# Altium footprint library AMIDA7.PcbLib: 36 footprints (part 1 of 3)
Each footprint in its own frame and in the unit in brackets; x right, y up, seen from the top. Pads: shape width x height; smd on the part's side, far side on the other; paste and mask are expansions set on the pad; w line width, h text height; cw(c..) or ccw(c..) is an arc to the next point about the centre after c.
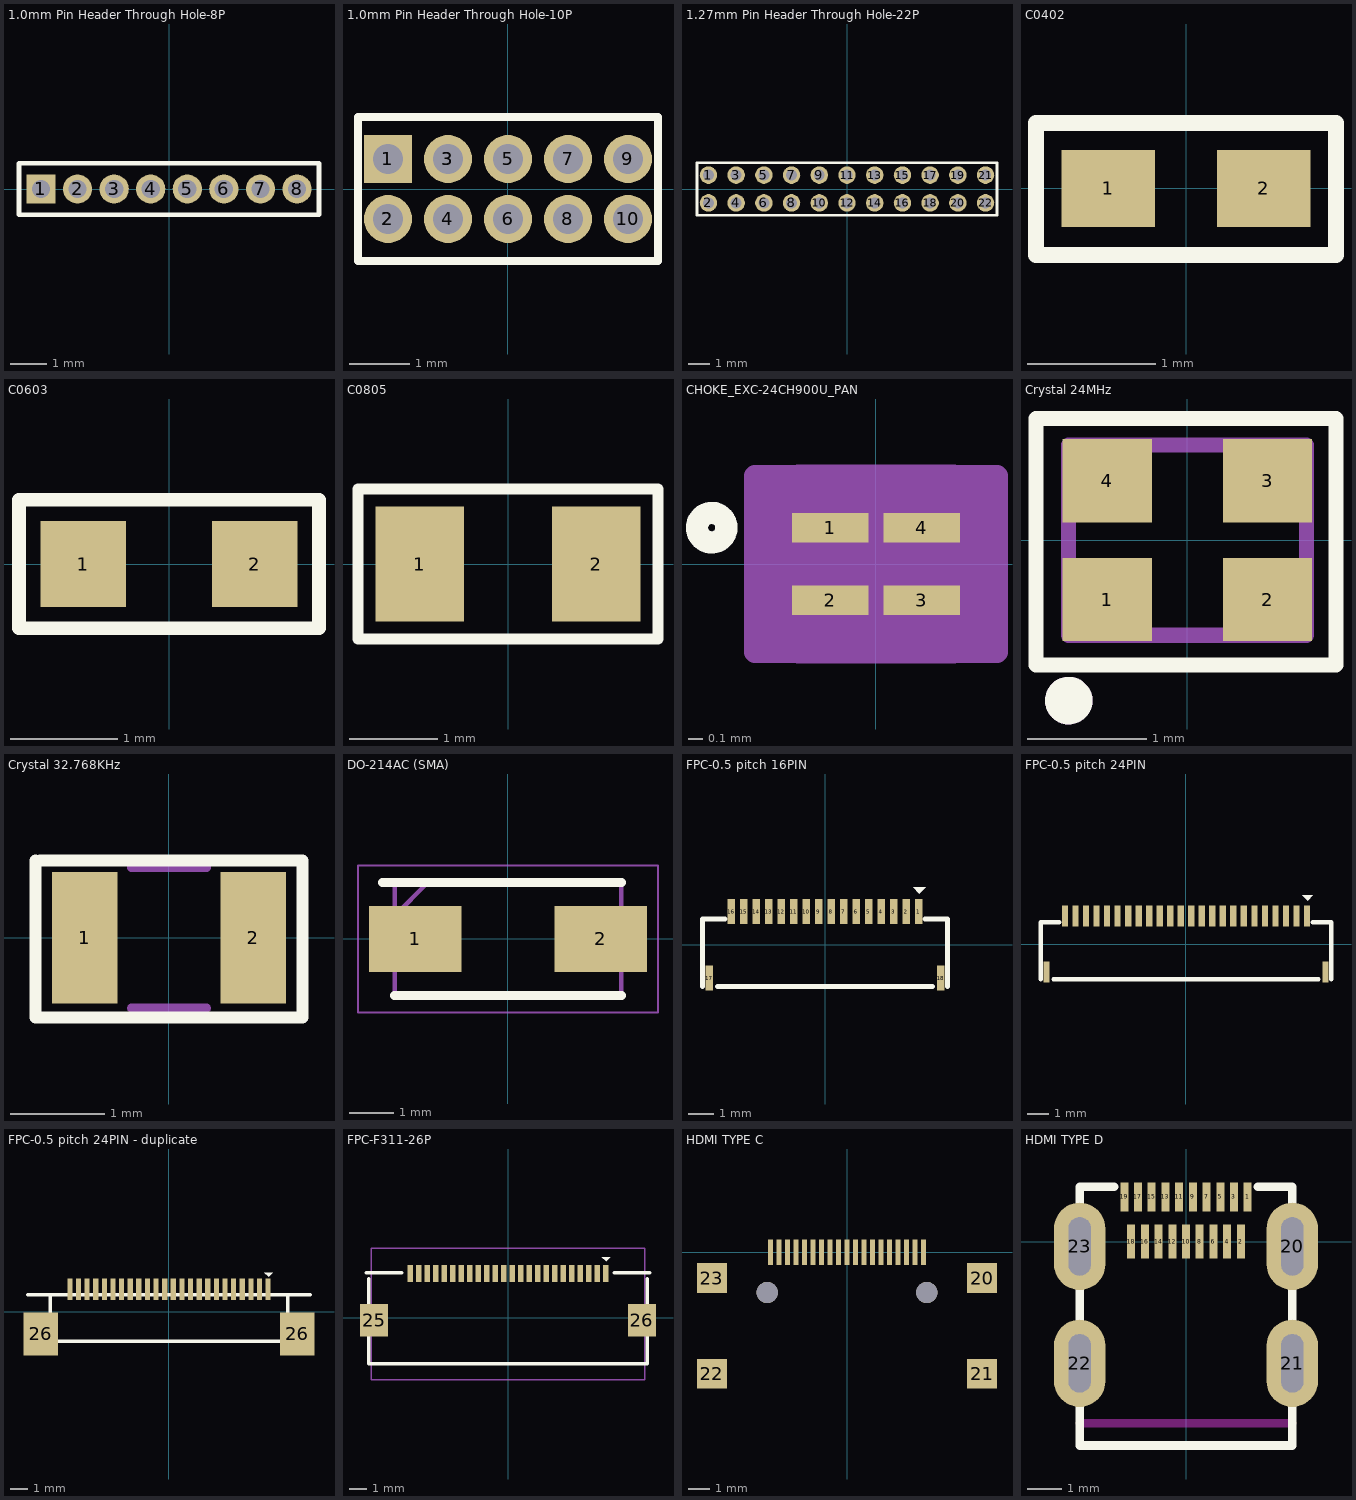
[diagram p0: the footprints below, top view; thin cyan lines are the x and y axes]

## 1.0mm Pin Header Through Hole-8P [mm] "8P(1x8)"
pads (8):
  rect 0.8x0.8 hole 0.5: 1(-3.5,0)
  round 0.8 hole 0.5: 2(-2.5,0) 3(-1.5,0) 4(-0.5,0) 5(0.5,0) 6(1.5,0) 7(2.5,0) 8(3.5,0)
Top Overlay:
  lines w0.127: -4.1,-0.7 -4.1,0.7 4.1,0.7 4.1,-0.7 -4.1,-0.7

## 1.0mm Pin Header Through Hole-10P [mm] "10P(2x5)"
pads (12):
  rect 0.8x0.8 hole 0.5: 1(-2,0.5)
  round 0.8 hole 0.5: 2(-2,-0.5) 2(-2,-0.5) 3(-1,0.5) 3(-1,0.5) 4(-1,-0.5) 5(0,0.5) 6(0,-0.5) 7(1,0.5) 8(1,-0.5) 9(2,0.5) 10(2,-0.5)
Top Overlay:
  lines w0.127: -2.5,-1.2 -2.5,1.2 2.5,1.2 2.5,-1.2 -2.5,-1.2

## 1.27mm Pin Header Through Hole-22P [mm] "22P(2x11)"
pads (22):
  round 0.8 hole 0.5: 1(-6.35,0.635) 2(-6.35,-0.635) 3(-5.08,0.635) 4(-5.08,-0.635) 5(-3.81,0.635) 6(-3.81,-0.635) 7(-2.54,0.635) 8(-2.54,-0.635) 9(-1.27,0.635) 10(-1.27,-0.635) 11(0,0.635) 12(0,-0.635) 13(1.27,0.635) 14(1.27,-0.635) 15(2.54,0.635) 16(2.54,-0.635) 17(3.81,0.635) 18(3.81,-0.635) 19(5.08,0.635) 20(5.08,-0.635) 21(6.35,0.635) 22(6.35,-0.635)
Top Overlay:
  lines w0.127: -6.875,-1.2 6.875,-1.2 6.875,1.2 -6.875,1.2 -6.875,-1.2

## C0402 [mm] "CAP_0402"
height 0.55
pads (2):
  rect 0.73x0.6 smd: 1(-0.608,0) 2(0.608,0)
Top Overlay:
  lines w0.127: -1.17,-0.52 1.17,-0.52 1.17,0.51 -1.17,0.51 -1.17,-0.52
3D body "CAP_0603.STEP": height 0.86, standoff 0, extent -0.8,-0.4 0.8,0.4

## C0603 [mm] "CAP_0603"
height 0.85
pads (2):
  rect 0.8x0.8 smd: 1(-0.8,0) 2(0.8,0)
Top Overlay:
  lines w0.127: -1.4,-0.6 -1.4,0.6 1.4,0.6 1.4,-0.6 -1.4,-0.6
3D body "CAP_0603.STEP": height 0.86, standoff 0, extent -0.8,-0.4 0.8,0.4

## C0805 [mm]
height 0.8
pads (2):
  rect 1x1.3 smd: 1(-1,0) 2(1,0)
Top Overlay:
  lines w0.127: -1.7,-0.85 -1.7,0.85 1.7,0.85 1.7,-0.85 -1.7,-0.85
3D body "CAP_0805.STEP": height 0.78, standoff 0, extent -1,-0.625 1,0.625

## CHOKE_EXC-24CH900U_PAN [mm]
pads (4):
  rect 0.529x0.204 smd paste+0 mask+0: 1(-0.315,0.25) 2(-0.315,-0.25) 3(0.315,-0.25) 4(0.315,0.25)
Top Overlay:
  circle w0.152: c-1.13,0.25 r0.102
Mechanical 15:
  region: -0.533,-0.606 -0.833,-0.606 -0.833,0.606 -0.533,0.606 -0.533,0.61 0.533,0.61 0.533,0.606 0.833,0.606 0.833,-0.606 0.533,-0.606 0.533,-0.61 -0.533,-0.61
  lines w0.152: -0.833,-0.606 -0.533,-0.606 -0.533,-0.61 0.533,-0.61 0.533,-0.606 0.833,-0.606 0.833,0.606 0.533,0.606 0.533,0.61 -0.533,0.61 -0.533,0.606 -0.833,0.606 -0.833,-0.606
3D body "CHOKE_EXC-24CH900U_PAN.step": height 0.36, standoff 0, extent -0.279,-0.377 0.279,0.377

## Crystal 24MHz [mm] "XRCGE24M000FBA1BR0,MURATA,24.0000MHZ,8PF,15PPM,2.0x1.6mm"
pads (4):
  rect 0.75x0.7 smd: 1(-0.675,-0.5) 2(0.675,-0.5) 3(0.675,0.5) 4(-0.675,0.5)
Top Overlay:
  circle w0.2: c-1,-1.35 r0.1
  lines w0.127: -1.275,-1.05 1.25,-1.05 1.25,1.025 -1.275,1.025 -1.275,-1.05
Mechanical 13:
  circle w0.2: c-1,-1.35 r0.1
  lines w0.127: -1,-0.8 -1,0.8 1,0.8 1,-0.8 -1,-0.8
Mechanical 15:
  lines w0.05: -1.25,-1.05 -1.25,1.05 1.25,1.05 1.25,-1.05 -1.25,-1.05
3D body "step_temp.STEP": height 0.7, standoff 0, extent -1,-0.8 1,0.8

## Crystal 32.768KHz [mm] "Seiko Instruments"
pads (2):
  rect 0.7x1.4 smd: 1(-0.9,0) 2(0.9,0)
Top Overlay:
  lines w0.127: -1.425,0.825 -1.425,-0.85 1.425,-0.85 1.425,0.825 -1.375,0.825
Mechanical 7:
  lines w0.1: -0.4,-0.75 0.4,-0.75 ; -0.4,0.75 0.4,0.75
3D body "XTAL_SC-20S_EPS.step": height 0.61, standoff 0, extent -1.08,-0.648 1.08,0.648

## DO-214AC (SMA) [mm] "SS14"
pads (2):
  rect 2.1x1.5 smd: 1(-2.1,0) 2(2.1,0)
Top Overlay:
  lines w0.2: -2.85,1.28 2.57,1.28 ; -2.57,-1.28 2.57,-1.28
Mechanical 15:
  lines w0.1: -2.57,0.53 -1.82,1.28 ; -2.57,-1.28 2.57,-1.28 2.57,1.28 -2.57,1.28 -2.57,-1.28
Mechanical 20:
  lines w0.05: -3.4,-1.665 3.4,-1.665 3.4,1.665 -3.4,1.665 -3.4,-1.665

## FPC-0.5 pitch 16PIN [mm] "冠泰"
pads (19):
  rect 0.3x1 smd: 1(3.75,1.33) 2(3.25,1.33) 3(2.75,1.33) 4(2.25,1.33) 5(1.75,1.33) 6(1.25,1.33) 7(0.75,1.33) 8(0.25,1.33) 9(-0.25,1.33) 10(-0.75,1.33) 11(-1.25,1.33) 12(-1.75,1.33) 13(-2.25,1.33) 14(-2.75,1.33) 15(-3.25,1.33) 16(-3.75,1.33) 17(-4.625,-1.33) 18(4.625,-1.33)
  rect 0x0 smd: 5(6.883,-0.33)
Top Overlay:
  region: 3.775,2.055 4.025,2.305 3.525,2.305
  lines w0.2: -4.9,-1.67 -4.9,1.03 -4,1.03 ; -4.3,-1.67 4.3,-1.67 ; 4,1.03 4.9,1.03 4.9,-1.67

## FPC-0.5 pitch 24PIN [mm] "冠泰"
pads (26):
  rect 0.3x1 smd: 1(5.75,1.33) 2(5.25,1.33) 3(4.75,1.33) 4(4.25,1.33) 5(3.75,1.33) 6(3.25,1.33) 7(2.75,1.33) 8(2.25,1.33) 9(1.75,1.33) 10(1.25,1.33) 11(0.75,1.33) 12(0.25,1.33) 13(-0.25,1.33) 14(-0.75,1.33) 15(-1.25,1.33) 16(-1.75,1.33) 17(-2.25,1.33) 18(-2.75,1.33) 19(-3.25,1.33) 20(-3.75,1.33) 21(-4.25,1.33) 22(-4.75,1.33) 23(-5.25,1.33) 24(-5.75,1.33) 25(-6.625,-1.33) 26(6.625,-1.33)
Top Overlay:
  region: 5.775,2.055 6.025,2.305 5.525,2.305
  lines w0.2: -6.9,-1.67 -6.9,1.03 -6.025,1.03 ; -6.3,-1.67 6.3,-1.67 ; 6.025,1.03 6.9,1.03 6.9,-1.67

## FPC-0.5 pitch 24PIN - duplicate [mm] "冠泰"
pads (26):
  rect 0.3x1.25 smd: 1(5.75,1.288) 2(5.25,1.288) 3(4.75,1.288) 4(4.25,1.288) 5(3.75,1.288) 6(3.25,1.288) 7(2.75,1.288) 8(2.25,1.288) 9(1.75,1.288) 10(1.25,1.288) 11(0.75,1.288) 12(0.25,1.288) 13(-0.25,1.288) 14(-0.75,1.288) 15(-1.25,1.288) 16(-1.75,1.288) 17(-2.25,1.288) 18(-2.75,1.288) 19(-3.25,1.288) 20(-3.75,1.288) 21(-4.25,1.288) 22(-4.75,1.288) 23(-5.25,1.288) 24(-5.75,1.288)
  rect 2x2.5 smd: 26(-7.45,-1.287) 26(7.45,-1.287)
Top Overlay:
  region: 5.775,2.013 6.025,2.263 5.525,2.263
  lines w0.2: -8.2,0.988 0,0.988 8.2,0.988 ; -6.9,0.988 -6.9,-1.712 6.9,-1.712 6.9,0.988

## FPC-F311-26P [mm] "冠泰電子"
pads (26):
  rect 0.3x1 smd: 1(5.75,2.6) 2(5.25,2.6) 3(4.75,2.6) 4(4.25,2.6) 5(3.75,2.6) 6(3.25,2.6) 7(2.75,2.6) 8(2.25,2.6) 9(1.75,2.6) 10(1.25,2.6) 11(0.75,2.6) 12(0.25,2.6) 13(-0.25,2.6) 14(-0.75,2.6) 15(-1.25,2.6) 16(-1.75,2.6) 17(-2.25,2.6) 18(-2.75,2.6) 19(-3.25,2.6) 20(-3.75,2.6) 21(-4.25,2.6) 22(-4.75,2.6) 23(-5.25,2.6) 24(-5.75,2.6)
  rect 1.65x1.9 smd: 25(-7.875,-0.15) 26(7.875,-0.15)
Top Overlay:
  region: 5.775,3.325 6.025,3.575 5.525,3.575
  lines w0.2: -8.35,2.65 -6.252,2.65 ; -8.2,2.3 -8.2,-2.7 8.2,-2.7 8.2,2.3 ; 6.252,2.65 8.35,2.65
Mechanical 20:
  lines w0.1: -8.05,-3.65 8.05,-3.65 8.05,4.1 -8.05,4.1 -8.05,-3.65
3D body "505110-2491.stp": height 1.88, standoff -0.02, extent -8.75,-2.5 8.75,2.8

## HDMI TYPE C [mm]
pads (25):
  rect 0.23x1.2 smd: 1(3.6,0) 2(3.2,0) 3(2.8,0) 4(2.4,0) 5(2,0) 6(1.6,0) 7(1.2,0) 8(0.8,0) 9(0.4,0) 10(0,0) 11(-0.4,0) 12(-0.8,0) 13(-1.2,0) 14(-1.6,0) 15(-2,0) 16(-2.4,0) 17(-2.8,0) 18(-3.2,0) 19(-3.6,0)
  rect 1.4x1.4 smd: 20(6.35,-1.22) 21(6.35,-5.72) 22(-6.35,-5.72) 23(-6.35,-1.22)
  round 1 hole 1: ""(-3.75,-1.9) ""(3.75,-1.9)

## HDMI TYPE D [mm]
pads (23):
  rect 0.232x0.85 smd: 1(1.8,1.3) 3(1.4,1.3) 5(1,1.3) 7(0.6,1.3) 9(0.2,1.3) 11(-0.2,1.3) 13(-0.6,1.3) 15(-1,1.3) 17(-1.4,1.3) 19(-1.8,1.3)
  rect 0.232x1 smd: 2(1.6,0) 4(1.2,0) 6(0.8,0) 8(0.4,0) 10(0,0) 12(-0.4,0) 14(-0.8,0) 16(-1.2,0) 18(-1.6,0)
  oval 1.5x2.55 hole 0.65 slot 1.7 at 90 deg: 20(3.1,-0.14) 21(3.1,-3.55) 22(-3.1,-3.55) 23(-3.1,-0.14)
Top Overlay:
  lines w0.254: -2.1,1.6 -3.1,1.6 -3.1,-5.95 3.1,-5.95 ; 2.1,1.6 3.1,1.6 3.1,-5.95 ; 3,-5.95 3.1,-5.95 ; 3.1,-5.25 3.1,-0.14
Keep-Out Layer:
  lines w0.254: -3.1,-5.3 0,-5.3 3.1,-5.3